# Altium schematic symbol library LS027B7DH01.SchLib: 1 symbol
Pins are listed as number, name and electrical type; pins without a type are passive.

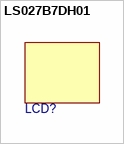
[diagram p0: symbol LS027B7DH01]

## LS027B7DH01
designator LCD?